# EAGLE library part 62004021121 (library Wurth_Elektronik_Electromechanic_Board_to_Board_Connectors_rev16a)
WR-PHD 2.00mm Dual Pin Header, 40 Pins=>Code : WR-PHD_Dual_Pin_Header_62004021121 <http://katalog.we-online.de/media/images/eican/WR-PHD_Dual_Pin_Header_6200xx21121.jpg> Details see: http://katalog.we-online.de/en/em/620_0xx_211_21 Created 2014-06-03, Karrer Zheng 2014 (C) Würth Elektronik
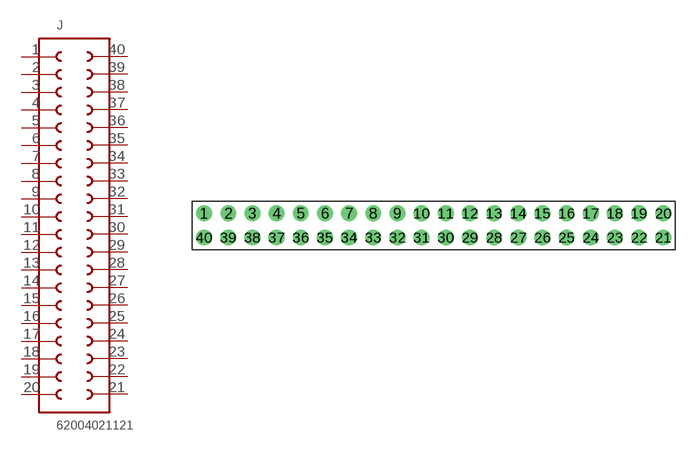
[diagram p240: symbol with the pads of 62004021121; footprint 62004021121]

Designator prefix J

## 62004021121  [62004021121]
1  1  pas
2  2  pas
3  3  pas
4  4  pas
5  5  pas
6  6  pas
7  7  pas
8  8  pas
9  9  pas
10  10  pas
11  11  pas
12  12  pas
13  13  pas
14  14  pas
15  15  pas
16  16  pas
17  17  pas
18  18  pas
19  19  pas
20  20  pas
21  21  pas
22  22  pas
23  23  pas
24  24  pas
25  25  pas
26  26  pas
27  27  pas
28  28  pas
29  29  pas
30  30  pas
31  31  pas
32  32  pas
33  33  pas
34  34  pas
35  35  pas
36  36  pas
37  37  pas
38  38  pas
39  39  pas
40  40  pas

## Footprint 62004021121 (pad centres in mm)
WR-PHD 2.00mm Dual Pin Header, 40 Pins
drill 0.8: 1 -21.35,1; 2 -19.35,1; 3 -17.35,1; 4 -15.35,1; 5 -13.35,1; 6 -11.35,1; 7 -9.35,1; 8 -7.35,1; 9 -5.35,1; 10 -3.35,1; 11 -1.35,1; 12 0.65,1; 13 2.65,1; 14 4.65,1; 15 6.65,1; 16 8.65,1; 17 10.65,1; 18 12.65,1; 19 14.65,1; 20 16.65,1; 21 16.65,-1; 22 14.65,-1; 23 12.65,-1; 24 10.65,-1; 25 8.65,-1; 26 6.65,-1; 27 4.65,-1; 28 2.65,-1; 29 0.65,-1; 30 -1.35,-1; 31 -3.35,-1; 32 -5.35,-1; 33 -7.35,-1; 34 -9.35,-1; 35 -11.35,-1; 36 -13.35,-1; 37 -15.35,-1; 38 -17.35,-1; 39 -19.35,-1; 40 -21.35,-1